# EAGLE library part 691318700006 (library Wuerth_Elektronik_eiCan_Terminal_Blocks_v2.0)
WR-TBL Serie 3187 - 5.0mm Close Vertical PCB Header with Flanges, 6 Pins
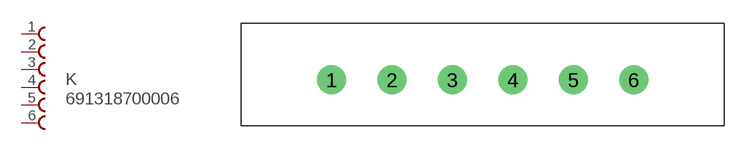
[diagram p64: symbol with the pads of 691318700006; footprint 691318700006]

Designator prefix K

## 691318700006  [691318700006]
1  1  pas
2  2  pas
3  3  pas
4  4  pas
5  5  pas
6  6  pas

## Footprint 691318700006 (pad centres in mm)
WR-TBL Serie 3187 - 5.0mm Close Vertical PCB Header with Flanges, 8 Pins
drill 1.6 round: 1 -5,0; 2 0,0; 3 5,0; 4 10,0; 5 15,0; 6 20,0